# Altium schematic symbol library Sch_TE_Connectivity.SchLib: 2 symbols
Pins are listed as number, name and electrical type; pins without a type are passive.

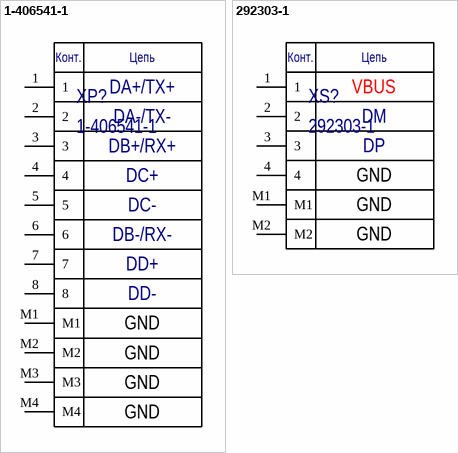
[diagram p0: symbols 1-406541-1 to 292303-1]

## 1-406541-1
designator XP?
Ethernet connectro (RJ45), Single Port, Shielded, Cat 5; Manufacturer: TE Connectivity; Part Number: 1-406541-1
footprint 1-406541-1 (TE Connectivity Ethernet connector)
pins: 1, 2, 3, 4, 5, 6, 7, 8, M1, M2, M3, M4
text: Конт.; Цепь; DA+/TX+; DA-/TX-; DB+/RX+; DC+; DC-; DB-/RX-; DD+; DD-; GND

## 292303-1
designator XS?
USB Connectors, A, 2.0, Standard Profile, Receptacle, 1 Port, Top, Right Angle, Tube / Box & Tube, Flush, Through Hole - Solder; Manufacturer: TE Connectivity; Part Number: 292303-1
pins: 1, 2, 3, 4, M1, M2
text: Конт.; Цепь; VBUS; DM; DP; GND